# EAGLE library part ADG1401BRMZ (library Xenon_Light)
SPST Switches
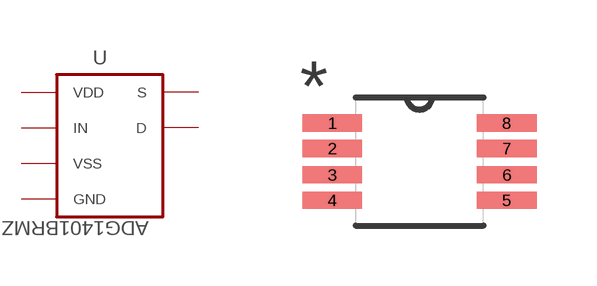
[diagram p0: symbol with the pads of SOP65P490X110-8N; footprint SOP65P490X110-8N]

Designator prefix U

## ADG1401BRMZ (MPN: ADG1401BRMZ; OC_FARNELL: 1786219; OC_NEWARK: 52R8027; PACKAGE: MSOP-8; SUPPLIER: Analog Devices)  [SOP65P490X110-8N]
1  S
3  GND  pas
4  VDD  pwr
6  IN  in
7  VSS  pwr
8  D

## Footprint SOP65P490X110-8N (pad centres in mm)
smd 1.499 x 0.432: 1 -2.184,0.965; 2 -2.184,0.33; 3 -2.184,-0.33; 4 -2.184,-0.965; 5 2.184,-0.965; 6 2.184,-0.33; 7 2.184,0.33; 8 2.184,0.965